# EAGLE library part 90130-1?38 (library con-molex-c-grid)
C-Grid III
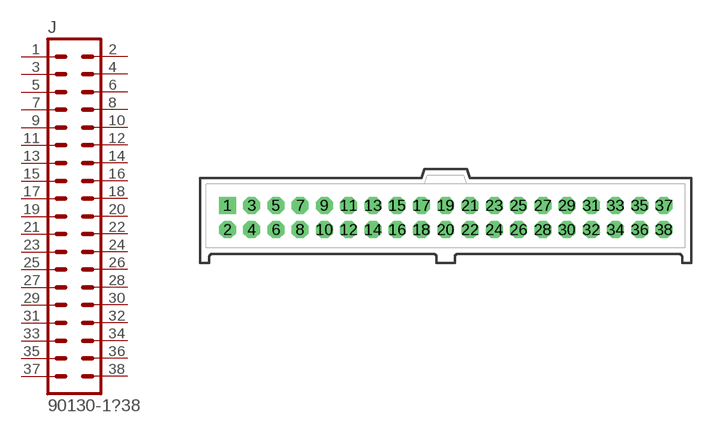
[diagram p95: symbol with the pads of 90130-1?38; footprint 90130-1?38]

Designator prefix J

## 90130-138  [90130-1?38]
1  1  pas
2  2  pas
3  3  pas
4  4  pas
5  5  pas
6  6  pas
7  7  pas
8  8  pas
9  9  pas
10  10  pas
11  11  pas
12  12  pas
13  13  pas
14  14  pas
15  15  pas
16  16  pas
17  17  pas
18  18  pas
19  19  pas
20  20  pas
21  21  pas
22  22  pas
23  23  pas
24  24  pas
25  25  pas
26  26  pas
27  27  pas
28  28  pas
29  29  pas
30  30  pas
31  31  pas
32  32  pas
33  33  pas
34  34  pas
35  35  pas
36  36  pas
37  37  pas
38  38  pas

## Footprint 90130-1?38 (pad centres in mm)
C-Grid III vertical, dual row
drill 1.016 pad 1.778 square: 1 -22.86,1.27
drill 1.016 pad 1.778 octagon: 2 -22.86,-1.27; 3 -20.32,1.27; 4 -20.32,-1.27; 5 -17.78,1.27; 6 -17.78,-1.27; 7 -15.24,1.27; 8 -15.24,-1.27; 9 -12.7,1.27; 10 -12.7,-1.27; 11 -10.16,1.27; 12 -10.16,-1.27; 13 -7.62,1.27; 14 -7.62,-1.27; 15 -5.08,1.27; 16 -5.08,-1.27; 17 -2.54,1.27; 18 -2.54,-1.27; 19 0,1.27; 20 0,-1.27; 21 2.54,1.27; 22 2.54,-1.27; 23 5.08,1.27; 24 5.08,-1.27; 25 7.62,1.27; 26 7.62,-1.27; 27 10.16,1.27; 28 10.16,-1.27; 29 12.7,1.27; 30 12.7,-1.27; 31 15.24,1.27; 32 15.24,-1.27; 33 17.78,1.27; 34 17.78,-1.27; 35 20.32,1.27; 36 20.32,-1.27; 37 22.86,1.27; 38 22.86,-1.27